# Altium footprint library Molex MicroUSB - Don't Use.PcbLib: 1 footprints
Each footprint in its own frame and in the unit in brackets; x right, y up, seen from the top. Pads: shape width x height; smd on the part's side, far side on the other; paste and mask are expansions set on the pad; w line width, h text height; cw(c..) or ccw(c..) is an arc to the next point about the centre after c.
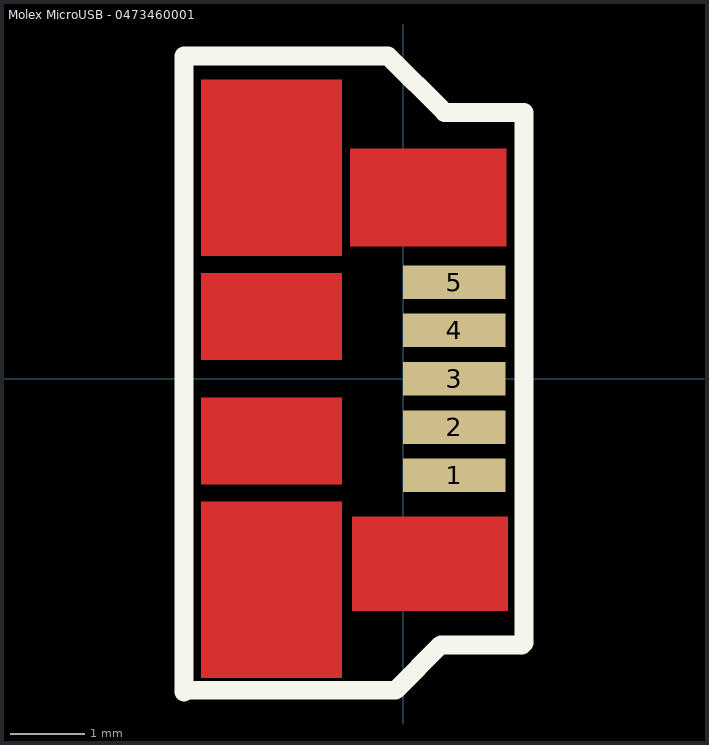
[diagram p0: the footprint, top view; thin cyan lines are the x and y axes]

## Molex MicroUSB - 0473460001 [mm]
pads (5):
  rect 1.38x0.45 smd: 1(0.69,-1.3) 2(0.69,-0.65) 3(0.69,0) 4(0.69,0.65) 5(0.69,1.3)
Top Layer:
  rectangle: -2.72,-1.425 -0.82,-0.25
  rectangle: -2.72,-4.025 -0.82,-1.65
  rectangle: -0.686,-3.125 1.414,-1.854
  rectangle: -0.711,1.778 1.389,3.1
  rectangle: -2.72,1.65 -0.82,4.025
  rectangle: -2.72,0.25 -0.82,1.425
Top Overlay:
  lines w0.254: -2.946,-4.216 -2.946,4.343 -0.686,4.343 -0.203,4.343 0.559,3.581 1.626,3.581 1.626,-3.556 1.6,-3.581 0.559,-3.581 0.508,-3.581 -0.102,-4.191 -0.686,-4.191 -2.946,-4.191
3D body: height 2.72, standoff -0.22, extent -4.101,-3.965 1.329,4.015